# Altium schematic symbol library 1310PN1U.Schlib: 1 symbol
Pins are listed as number, name and electrical type; pins without a type are passive.

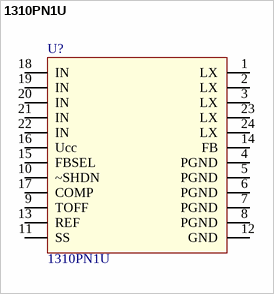
[diagram p0: symbol 1310PN1U]

## 1310PN1U
designator U?
Назначение: DC-DC преобразователь; Наименование: 1310ПН1У
footprint H06.24-1B
pins: 1 LX (oc), 2 LX (oc), 3 LX (oc), 4 PGND (oc), 5 PGND (oc), 6 PGND (oc), 7 PGND (oc), 8 PGND (oc), 9 TOFF (oc), 10 ~SHDN (oc), 11 SS (oc), 12 GND (oc), 13 REF (oc), 14 FB (oc), 15 FBSEL (oc), 16 Ucc (oc), 17 COMP (oc), 18 IN (oc), 19 IN (oc), 20 IN (oc), 21 IN (oc), 22 IN (oc), 23 LX (oc), 24 LX (oc)